# Altium schematic symbol library car_fuse.SchLib: 1 symbol
Pins are listed as number, name and electrical type; pins without a type are passive.

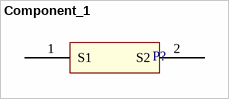
[diagram p0: symbol Component_1]

## Component_1
designator P?, comment Car Fuse  (value not drawn)
footprint car_fuse (Footprint not found)
pins: 1 S1, 2 S2